# Altium footprint library Semi.PcbLib: 34 footprints (part 3 of 3)
Each footprint in its own frame and in the unit in brackets; x right, y up, seen from the top. Pads: shape width x height; smd on the part's side, far side on the other; paste and mask are expansions set on the pad; w line width, h text height; cw(c..) or ccw(c..) is an arc to the next point about the centre after c.
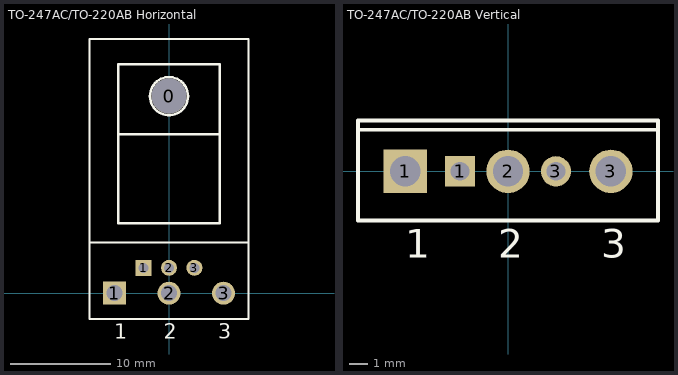
[diagram p2: the footprints below, top view; thin cyan lines are the x and y axes]

## TO-247AC/TO-220AB Horizontal [mm] "SIP with Mounting Hole; 3 Leads; Body 20 x 15.6 x 5 mm (typ); Pitch 5.45 mm"
height 24.6
pads (7):
  round 3.5 hole 3.5 unplated: 0(0,19.685)
  rect 2.3x2.3 hole 1.6: 1(-5.45,0)
  rect 1.6x1.6 hole 1: 1(-2.54,2.54)
  round 2.3 hole 1.6: 2(0,0) 3(5.45,0)
  round 1.6 hole 1: 2(0,2.54) 3(2.54,2.54)
Top Overlay:
  circle w0.254: c0,19.685 r1.905
  lines w0.2: -7.874,5.08 7.874,5.08 ; -7.95,-2.6 7.95,-2.6 7.95,25.4 -7.95,25.4 -7.95,-2.6
  lines w0.254: -5.08,15.875 5.08,15.875 ; -5.08,6.985 -5.08,22.86 5.08,22.86 5.08,6.985 -5.08,6.985
  text "1" at -5.45,-4.575 h1.5
  text "2" at -0.508,-4.575 h1.5
  text "3" at 4.942,-4.575 h1.5

## TO-247AC/TO-220AB Vertical [mm] "SIP with Mounting Hole; 3 Leads; Body 20 x 15.6 x 5 mm (typ); Pitch 5.45 mm"
height 24.6
pads (5):
  rect 2.3x2.3 hole 1.6: 1(-5.45,0)
  rect 1.6x1.6 hole 1: 1(-2.54,0)
  round 2.3 hole 1.6: 2(0,0) 3(5.45,0)
  round 1.6 hole 1: 3(2.54,0)
Top Overlay:
  lines w0.2: -7.95,2.2 7.95,2.2 ; -7.95,-2.6 7.95,-2.6 7.95,2.7 -7.95,2.7 -7.95,-2.6
  text "1" at -5.45,-4.575 h1.5
  text "2" at -0.508,-4.575 h1.5
  text "3" at 4.942,-4.575 h1.5